# Altium schematic symbol library IC_InterfaceControllers.SchLib: 1 symbol
Pins are listed as number, name and electrical type; pins without a type are passive.

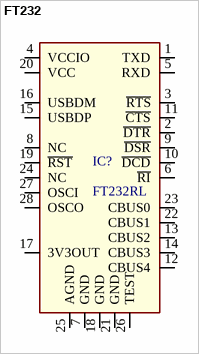
[diagram p0: symbol FT232]

## FT232
designator IC?, comment FT232RL
USB Bridge, USB to UART USB 2.0 UART Interface 28-SSOP; Value: FT232RL; Manufacturer: *; Part number: *; Unit price: *
footprint SSOP-28 (SSOP-28  / SSOP28)
pins: 1 TXD, 2 ~{DTR}, 3 ~{RTS}, 4 VCCIO, 5 RXD, 6 ~{RI}, 7 GND, 8 NC, 9 ~{DSR}, 10 ~{DCD}, 11 ~{CTS}, 12 CBUS4, 13 CBUS2, 14 CBUS3, 15 USBDP, 16 USBDM, 17 3V3OUT, 18 GND, 19 ~{RST}, 20 VCC, 21 GND, 22 CBUS1, 23 CBUS0, 24 NC, 25 AGND, 26 TEST, 27 OSCI, 28 OSCO